# Altium schematic symbol library OPA659.SchLib: 1 symbol
Pins are listed as number, name and electrical type; pins without a type are passive.

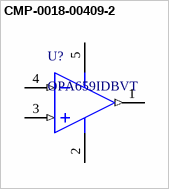
[diagram p0: symbol CMP-0018-00409-2]

## CMP-0018-00409-2
designator U?, comment OPA659IDBVT
650 MHz Unity Gain Stable JFET Input Amplifier, 7 to 13 V, -40 to 85 degC, 5-pin SOT23 (DBV5), Green (RoHS & no Sb/Br); Manufacturer: Texas Instruments; 2nd Harmonic(dBc): 79; Slew Rate(Typ)(V/us): 2550; @ MHz: 10; Iib(Max)(nA): 1.2; Acl, min stable gain(V/V): 2; BW @ Acl(MHz): 650; Vs(Min)(V): 7; THD (Fc is 1 MHz)(Typ)(dB): -78; Sub Family: High Output Current Amplifier (>=50mA), High Speed Amplifier (>=50MHz); Io(Typ)(mA): 70; 3rd Harmonic(dBc): 100; Vio(Max)(mV): 5; Vn at Flatband(Typ)(nV/rtHz): 8.9; Vs(Max)(V): 13; Iq per channel(Max)(mA): 33.5; Number of Channels: 1; ComponentLink3Description: Package Specification; Code_JEDEC: MO-178; PackageDescription: 5-Pin Plastic Small Outline, Body 1.6 x 2.9 mm, Pitch 0.95 mm; PackageVersion: 4073253-4/K, 03/2006; ComponentLink2Description: Datasheet; ComponentLink3URL: http://www.ti.com/litv/pdf/mpds018i; ComponentLink1Description: Manufacturer URL; PackageReference: DBV0005A; Eco-Plan: Green (RoHS & no Sb/Br); ComponentLink1URL: http://www.ti.com/; Mounting Technology: Surface Mount; PartNumber: OPA659IDBVT; ComponentLink2URL: http://www.ti.com/general/docs/lit/getliterature.tsp?genericPartNumber=OPA659&fileType=pdf; DatasheetVersion: SBOS342B
footprint DBV0005A_L (SOT23, 5-Leads, Body 3.05x1.75mm, Pitch 0.95mm, IPC High Density)
pins: 1 OUT (out), 2 VS- (power), 3 IN+ (in), 4 IN- (in), 5 VS+ (power)